# EAGLE library part AMOEBIKAVOICE (library EurorackModularParts)
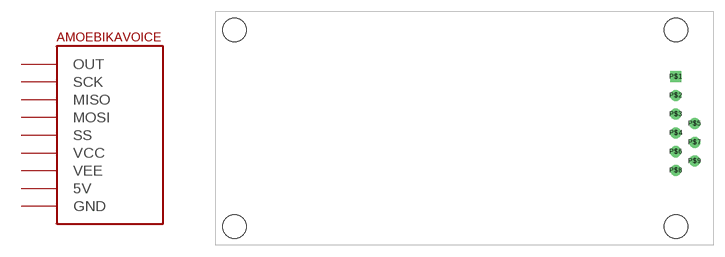
[diagram p34: symbol with the pads of AMOEBIKAVOICE; footprint AMOEBIKAVOICE]

Designator prefix -

## AMOEBIKAVOICE  [AMOEBIKAVOICE]
P$1  GND
P$2  5V
P$3  VCC
P$4  VEE
P$5  OUT
P$6  SS
P$7  SCK
P$8  MOSI
P$9  MISO

## Footprint AMOEBIKAVOICE (pad centres in mm)
drill 1 square: P$1 62.23,22.86
drill 1: P$2 62.23,20.32; P$3 62.23,17.78; P$4 62.23,15.24; P$5 64.77,16.51; P$6 62.23,12.7; P$7 64.77,13.97; P$8 62.23,10.16; P$9 64.77,11.43
hole 3.2 at 2.54,2.54
hole 3.2 at 2.54,29.21
hole 3.2 at 62.23,29.21
hole 3.2 at 62.23,2.54